# Altium schematic symbol library BLDC Motor ESC.SchLib: 8 symbols
Pins are listed as number, name and electrical type; pins without a type are passive.

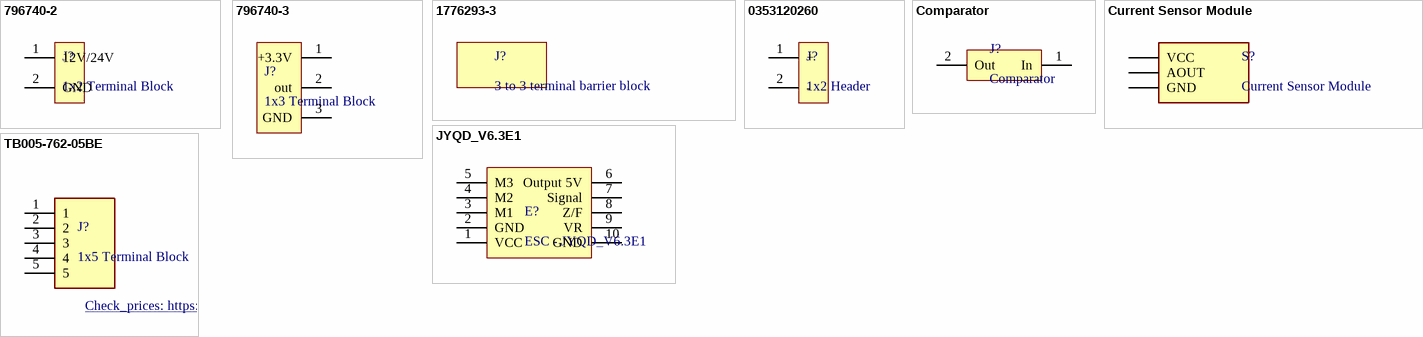
[diagram p0: symbols 796740-2 to TB005-762-05BE]

## 796740-2
designator J?, comment 1x2 Terminal Block
Conn Terminal Block 2 POS 6.35mm Solder RA Thru-Hole 32A/Contact; Manufacturer: TE Connectivity; Manufacturer Part Number: 796740-2; Plating: Brass; Max Current Rating: 30A; Number of Poles: 2; Max Voltage Rating (AC): 300V; Number of Levels: 1; Connector Type: Plug; Interlock: Yes (With); Screw Flange: No (Without); Wire Gauge (Max): 24AWG; Thread Size: M3; Tail Length: 0.197inch; Approvals: UL; Supplier 1: Digi-Key; Supplier Part Number 1: A98275-ND; RoHS: Yes; Category: Terminal Blocks; Stock 1: 5197; Pricing 1: 1=2.26000, 10=1.70900, 25=1.58440, 50=1.42440, 100=1.38970, 250=1.21596, 500=1.11172, 1000=1.00750, 5000=0.92644 (USD); Mount: Through Hole; Contact Plating: Tin; Contact Material: Brass; Color: Green; Housing Color: Green; Housing Material: Polyamide; Number of Rows: 1; Current Rating: 30A; Package Quantity: 200; Packaging: Carton; Voltage Rating: 300V; Number of Positions: 2; Termination: Screw; Number of Positions Per Level: 2; Current: 30A; Voltage: 300V; Max Supply Voltage (AC): 300V; Number of Contacts: 2; Number of Circuits: 2; Orientation: Right Angle; Screwless Terminal Block: No (Without); Shrouded: No (Without); Side Stackable: No (Without); Series: Buchanan; Length: 13.3mm; Wire Gauge (Min): 24AWG; Pitch: 6.35mm; Depth: 12.5mm; Radiation Hardening: No; Lead Free: Lead Free; ELV: Compliant; Flammability Rating: UL94 V-0; RoHS Compliant: Yes; ComponentLink1URL: https://datasheet.ciiva.com/823/eng-cd-796740-c1-823477.pdf?src-supplier=Digi-Key; ComponentLink1Description: https://datasheet.ciiva.com/823/eng-cd-796740-c1-823477.pdf?src-supplier=Digi-Key; ComponentLink2URL: https://datasheet.ciiva.com/23766/eng-cd-796740-c1-23766211.pdf?src-supplier=Newark; ComponentLink2Description: https://datasheet.ciiva.com/23766/eng-cd-796740-c1-23766211.pdf?src-supplier=Newark; ComponentLink3URL: https://datasheet.ciiva.com/3141/eng-cs-1308389-eurostyle-terminal-blocks-0607-3141691.pdf?src-supplier=Avnet; ComponentLink3Description: https://datasheet.ciiva.com/3141/eng-cs-1308389-eurostyle-terminal-blocks-0607-3141691.pdf?src-supplier=Avnet; ComponentLink4URL: https://datasheet.ciiva.com/30130/eng-cs-1308389-eurostyle-terminal-blocks-0607-30130345.pdf?src-supplier=Onlinecomponents.com; ComponentLink4Description: https://datasheet.ciiva.com/30130/eng-cs-1308389-eurostyle-terminal-blocks-0607-30130345.pdf?src-supplier=Onlinecomponents.com; ComponentLink5URL: https://datasheet.ciiva.com/1416/1650926-1416332.pdf?src-supplier=Element14; ComponentLink5Description: https://datasheet.ciiva.com/1416/1650926-1416332.pdf?src-supplier=Element14
footprint TE_796740-2
pins: 1 12V/24V, 2 GND

## 796740-3
designator J?, comment 1x3 Terminal Block
Conn Terminal Block 3 POS 6.35mm Solder ST Thru-Hole 32A/Contact; Manufacturer: TE Connectivity; Manufacturer Part Number: 796740-3; Plating: Brass; Current Rating: 30A; Voltage Rating (AC): 300V; Number of Positions: 3; Number of Levels: 1; Connector Type: Plug; Interlock: Yes (With); Screw Flange: No (Without); Wire Gauge (Max): 24AWG; Thread Size: M3; Tail Length: 0.197inch; Supplier 1: Digi-Key; Supplier Part Number 1: A98276-ND; RoHS: Yes; Category: Terminal Blocks; Stock 1: 7857; Pricing 1: 1=3.06000, 10=2.31700, 25=2.14760, 50=1.93080, 100=1.88370, 250=1.64828, 500=1.50700, 1000=1.36571, 5000=1.25583 (USD); Mount: Through Hole; Contact Plating: Tin; Contact Material: Brass; Color: Green; Housing Color: Green; Housing Material: Polyamide; Packaging: Carton; Number of Rows: 1; Package Quantity: 150; Max Voltage Rating (AC): 300V; Number of Positions Per Level: 3; Current: 30A; Voltage: 300V; Termination: Solder; Number of Circuits: 3; Number of Contacts: 3; Max Supply Voltage (AC): 300V; Orientation: Straight; Screwless Terminal Block: No (Without); Shrouded: No (Without); Side Stackable: No (Without); Max Current Rating: 30A; Series: Buchanan; Length: 19.65mm; Wire Gauge (Min): 24AWG; Pitch: 6.35mm; Depth: 12.5mm; Radiation Hardening: No; ELV: Compliant; Flammability Rating: UL94 V-0; RoHS Compliant: Yes; ComponentLink1URL: https://datasheet.ciiva.com/30191/eng-cs-1308389-eurostyle-terminal-blocks-0607-30191689.pdf?src-supplier=Onlinecomponents.com; ComponentLink1Description: https://datasheet.ciiva.com/30191/eng-cs-1308389-eurostyle-terminal-blocks-0607-30191689.pdf?src-supplier=Onlinecomponents.com
footprint TE_796740-3
pins: 1 +3.3V, 2 out, 3 GND

## 1776293-3
designator J?, comment 3 to 3 terminal barrier block
Conn Europa Terminal Block F 6 POS 8mm Screw ST Cable Mount 30A/Contact Package; Manufacturer: TE Connectivity; Manufacturer Part Number: 1776293-3; Number of Circuits: 3; Current Rating: 30A; Voltage Rating: 250V; Number of Wire Entries: 6; Mounting Ears: No (Without); Number of Levels: 1; Wire Gauge (Max): 22AWG; Wire Gauge (Min): 12AWG; Thread Size: M3; Approvals: UL; Supplier 1: Digi-Key; Supplier Part Number 1: 1776293-3-ND; RoHS: Yes; Category: Terminal Blocks; Stock 1: 1091; Pricing 1: 1=2.69000, 10=2.03700, 25=1.88760, 50=1.69720, 100=1.65590, 250=1.44892, 500=1.32472, 1000=1.20052, 5000=1.10393 (USD); Mount: Panel; Color: Natural; Insulation Material: Nylon; Terminal Material: Brass; Terminal Finish: Zinc; Housing Color: Natural; Housing Material: Polyamide; Contact Plating: Tin; Contact Material: Brass,Steel; Min Operating Temperature: -35°C; Max Operating Temperature: 100°C; Number of Rows: 1; Package Quantity: 1; Packaging: Bulk; Series: TSB230, Buchanan; Termination: Screw; Number of Contacts: 6; Orientation: Straight; Number of Poles: 3; Number of Positions: 3; Max Voltage Rating (AC): 250V; Max Current Rating: 30A; Mounting Insert: No (Without); Number of Ways: 3; Max Supply Voltage (AC): 250V; Length: 22mm; Pitch: 8mm; Depth: 17mm; Wire/Cable Gauge: 12AWG; Radiation Hardening: No; Flammability Rating: UL94 V-2; RoHS Compliant: Yes; ELV: Compliant; ComponentLink1URL: https://datasheet.ciiva.com/30210/tsb23003ds-30210153.pdf?src-supplier=Onlinecomponents.com; ComponentLink1Description: https://datasheet.ciiva.com/30210/tsb23003ds-30210153.pdf?src-supplier=Onlinecomponents.com; ComponentLink2URL: https://datasheet.ciiva.com/30491/0900766b8122427b-30491812.pdf?src-supplier=RSComponents; ComponentLink2Description: https://datasheet.ciiva.com/30491/0900766b8122427b-30491812.pdf?src-supplier=RSComponents; ComponentLink3URL: https://datasheet.ciiva.com/776/eng-cd-1776293-p-776578.pdf?src-supplier=Digi-Key; ComponentLink3Description: https://datasheet.ciiva.com/776/eng-cd-1776293-p-776578.pdf?src-supplier=Digi-Key; ComponentLink4URL: https://datasheet.ciiva.com/9370/eng-cs-1308389-europa-terminal-blocks-0607-9370998.pdf?src-supplier=Avnet; ComponentLink4Description: https://datasheet.ciiva.com/9370/eng-cs-1308389-europa-terminal-blocks-0607-9370998.pdf?src-supplier=Avnet; ComponentLink5URL: https://datasheet.ciiva.com/16676/eng-cs-1308389-europa-terminal-blocks-0607-16676059.pdf?src-supplier=Avnet+Europe; ComponentLink5Description: https://datasheet.ciiva.com/16676/eng-cs-1308389-europa-terminal-blocks-0607-16676059.pdf?src-supplier=Avnet+Europe; ComponentLink6URL: https://datasheet.ciiva.com/16794/70088774-16794844.pdf?src-supplier=Allied+Electronics; ComponentLink6Description: https://datasheet.ciiva.com/16794/70088774-16794844.pdf?src-supplier=Allied+Electronics
footprint PCBComponent_1

## 0353120260
designator J?, comment 1x2 Header
Conn Shrouded Header (4 Sides) HDR 2 POS 2.5mm Solder ST Top Entry Thru-Hole Bag; Manufacturer: Molex; Manufacturer Part Number: 0353120260; Number of Positions: 2; Connector Type: Male Pin; Pitch: 0.098inch; Supplier 1: Digi-Key; RoHS: Yes; Stock 1: 286; Pricing 1: 1=0.14000, 10=0.09500, 100=0.06800, 1000=0.05711, 5000=0.04895, 10000=0.04759 (USD); Mount: Through Hole; Housing Color: Natural; Housing Material: Nylon; Contact Plating: Tin; Contact Material: Brass; Color: Natural; Min Operating Temperature: -40°C; Max Operating Temperature: 105°C; Number of Rows: 1; Packaging: Bulk; Termination: Solder; Number of Contacts: 2; Orientation: Straight; Series: 35312; Fastening Type: Latch; Contact Type: Male Pin; Length: 7.46mm; Depth: 6.5mm; ComponentLink1URL: https://datasheet.ciiva.com/738/353120260-sd-738078.pdf?src-supplier=Digi-Key; ComponentLink1Description: https://datasheet.ciiva.com/738/353120260-sd-738078.pdf?src-supplier=Digi-Key; Supplier Part Number 1: WM3152-ND; Category: Headers and Wire Housings
pins: 1 +, 2 -

## Comparator
designator J?
pins: 1 In, 2 Out

## Current Sensor Module
designator S?
footprint ACS712 Current Sensor Module Shield
pins: 01 VCC, 02 AOUT, 03 GND

## JYQD_V6.3E1
designator E?, comment ESC - JYQD_V6.3E1
pins: 1 VCC, 2 GND, 3 M1, 4 M2, 5 M3, 6 Output 5V, 7 Signal, 8 Z/F, 9 VR, 10 GND

## TB005-762-05BE
designator J?, comment 1x5 Terminal Block
2~24 Poles, Screw Type, Horizontal, 7.62 Pitch, 26~10 (AWG), Terminal Block Connector; MF: CUI Devices; MP: TB005-762-05BE; Value: *; CUI_purchase_URL: https://www.cuidevices.com/product/interconnect/connectors/terminal-blocks/tb005-762-series?utm_source=snapeda.com&utm_medium=referral&utm_campaign=snapedaBOM; SnapEDA_Link: https://www.snapeda.com/parts/TB005-762-05BE/CUI%20Devices/view-part/3590997/?ref=snap; Availability: Unavailable; Package: None; Price: None; Check_prices: https://www.snapeda.com/parts/TB005-762-05BE/CUI%20Devices/view-part/3590997/?ref=eda
footprint CUI_TB005-762-05BE
pins: 1, 2, 3, 4, 5